# EAGLE library part 78615/9C (library ruark2)
10mH General Purpose Pulse Transformer 1CT:1CT Surface Mount 56Vus
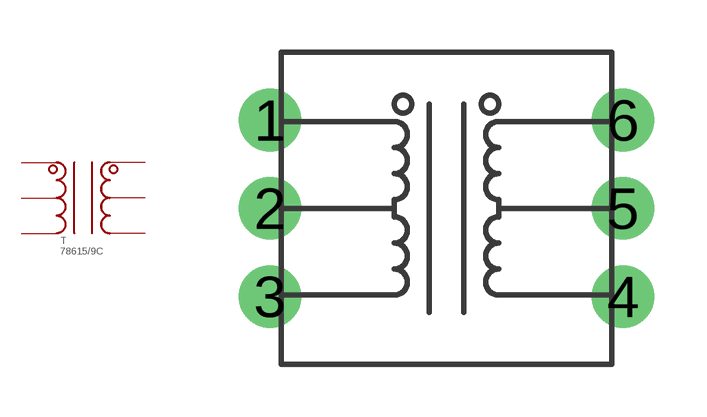
[diagram p201: symbol with the pads of 786T; footprint 786T]

Designator prefix T

## 78615/9C  [786T]
1  1
2  2
3  3
4  4
5  5
6  6

## Footprint 786T (pad centres in mm)
drill 1.2: 1 -5.08,2.54; 2 -5.08,0; 3 -5.08,-2.54; 4 5.08,-2.54; 5 5.08,0; 6 5.08,2.54